# Altium footprint library Flex_PCB_footprints.PcbLib: 36 footprints (part 3 of 3)
Each footprint in its own frame and in the unit in brackets; x right, y up, seen from the top. Pads: shape width x height; smd on the part's side, far side on the other; paste and mask are expansions set on the pad; w line width, h text height; cw(c..) or ccw(c..) is an arc to the next point about the centre after c.
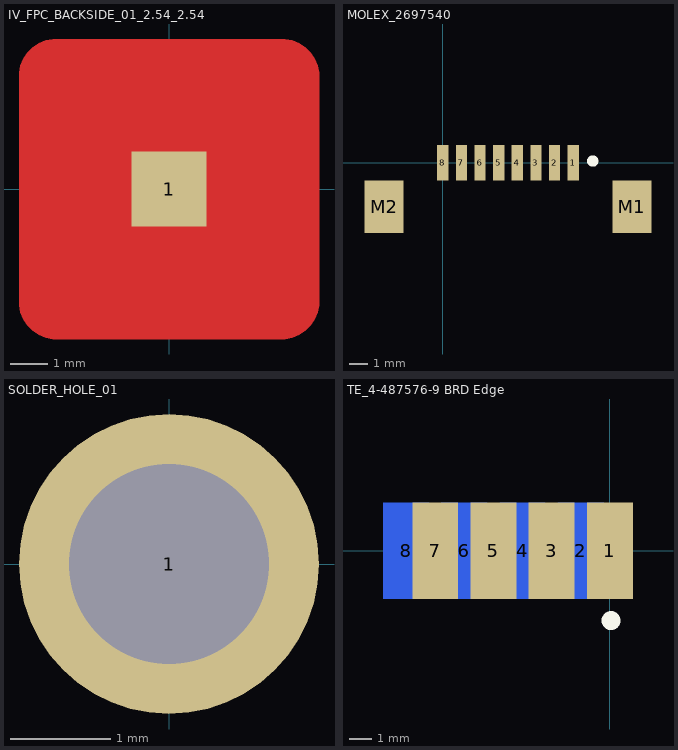
[diagram p2: the footprints below, top view; thin cyan lines are the x and y axes]

## IV_FPC_BACKSIDE_01_2.54_2.54 [mm]
pads (1):
  rect 2x2 smd: 1(0,0)
Top Layer:
  region: -3,-4 -3.098,-4 -3.292,-3.962 -3.474,-3.886 -3.637,-3.777 -3.777,-3.637 -3.886,-3.474 -3.962,-3.292 -4,-3.098 -4,-3 -4,3 -4,3.098 -3.962,3.292 -3.886,3.474 -3.777,3.637 -3.637,3.777 -3.474,3.886 -3.292,3.962 -3.098,4 -3,4 3,4 3.098,4 3.292,3.962 3.474,3.886 3.637,3.777 3.777,3.637 3.886,3.474 3.962,3.292 4,3.098 4,3 4,-3 4,-3.098 3.962,-3.292 3.886,-3.474 3.777,-3.637 3.637,-3.777 3.474,-3.886 3.292,-3.962 3.098,-4 3,-4

## MOLEX_2697540 [mm] "Molex 8 pin 1 mm FPC"
pads (10):
  rect 0.6x1.9 smd: 1(7,0) 2(6,0) 3(5,0) 4(4,0) 5(3,0) 6(2,0) 7(1,0) 8(0,0)
  rect 2.1x2.8 smd: M1(10.15,-2.35) M2(-3.15,-2.35)
Top Overlay:
  circle w0.3: c8.05,0.1 r0.152
3D body "MOLEX_2697540.stp": height 3, standoff 0, extent -4,-6.65 11,0.75

## SOLDER_HOLE_01 [mm]
pads (1):
  round 3 hole 2: 1(0,0)

## TE_4-487576-9 BRD Edge [mm] "FPC w/o stiffener, 1.27 mm, board edge"
pads (8):
  rect 2x4.2 smd: 1(0,0) 3(-2.54,0) 5(-5.08,0) 7(-7.62,0)
  rect 2x4.2 smd far side: 2(-1.27,0) 4(-3.81,0) 6(-6.35,0) 8(-8.89,0)
Top Overlay:
  circle w0.4: c0.05,-3.05 r0.212
3D body "TE_4-487576-9.stp": height 1.55, standoff -4.55, extent -12.35,-1.204 3.398,10.104